# EAGLE library part MAX338* (library maxim)
RS-232 Transceivers with ±15kV ESD-Protected I/O and Logic Pins +2.35V to +5.5V, 1µA, 2Tx/2Rx Source: http://datasheets.maxim-ic.com/en/ds/MAX3380E-MAX3381E.pdf
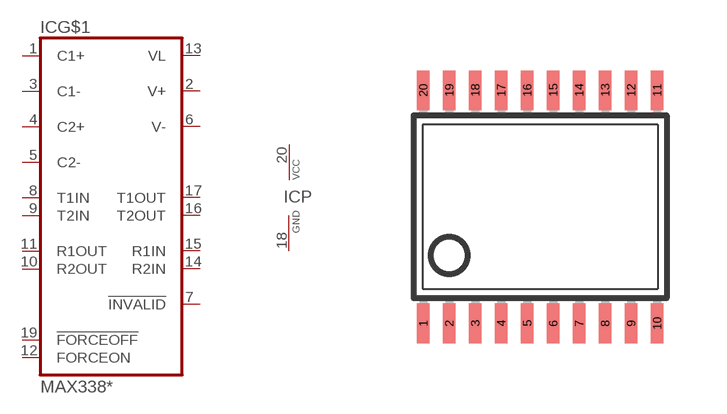
[diagram p280: symbol with the pads of TSSOP20; footprint TSSOP20]

Designator prefix IC; gates G$1=MAX3380 P=VCC-GND

## MAX3380ECUP (MPN: MAX3380ECUP; OC_FARNELL: 1379941; OC_NEWARK: 77C9413), MAX3380EEUP (MF: MAXIM; MPN: MAX3380EEUP; OC_FARNELL: 1379942; OC_NEWARK: 77C9415), MAX3381ECUP (MF: MAXIM; MPN: MAX3381ECUP; OC_FARNELL: 1379712; OC_NEWARK: 77C9417), MAX3381EEUP (MF: MAXIM; MPN: MAX3381EEUP; OC_FARNELL: unknown; OC_NEWARK: 77C9419)  [TSSOP20]
1  G$1:C1+  pas
2  G$1:V+  pas
3  G$1:C1-  pas
4  G$1:C2+  pas
5  G$1:C2-  pas
6  G$1:V-  pas
7  G$1:!INVALID  out
8  G$1:T1IN  in
9  G$1:T2IN  in
10  G$1:R2OUT  out
11  G$1:R1OUT  out
12  G$1:FORCEON  in
13  G$1:VL  pas
14  G$1:R2IN  in
15  G$1:R1IN  in
16  G$1:T2OUT  out
17  G$1:T1OUT  out
18  P:GND  pwr
19  G$1:!FORCEOFF  in
20  P:VCC  pwr

## Footprint TSSOP20 (pad centres in mm)
Thin Shrink Small Outline Plastic 20 MAX3223-MAX3243.pdf
smd 0.305 x 0.991: 1 -2.925,-2.918; 2 -2.275,-2.918; 3 -1.625,-2.918; 4 -0.975,-2.918; 5 -0.325,-2.918; 6 0.325,-2.918; 7 0.975,-2.918; 8 1.625,-2.918; 9 2.275,-2.918; 10 2.925,-2.918; 11 2.925,2.918; 12 2.275,2.918; 13 1.625,2.918; 14 0.975,2.918; 15 0.325,2.918; 16 -0.325,2.918; 17 -0.975,2.918; 18 -1.625,2.918; 19 -2.275,2.918; 20 -2.925,2.918